# EAGLE library part BATRON12864 (library jason-test)
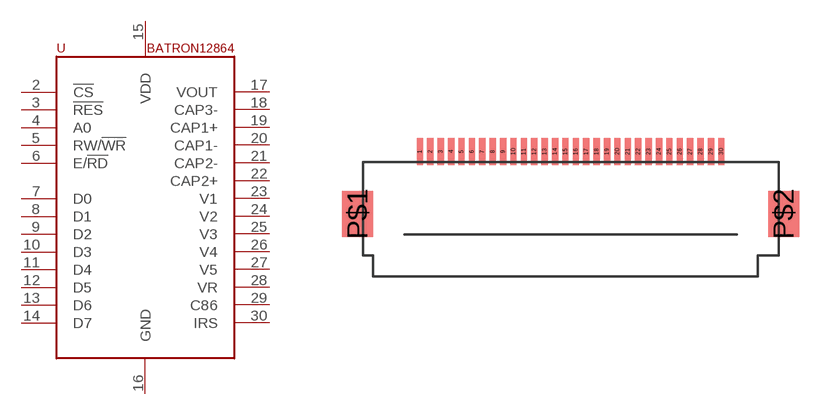
[diagram p41: symbol with the pads of IL-FHR-F30S-HF; footprint IL-FHR-F30S-HF]

Designator prefix -

## BATRON12864  [IL-FHR-F30S-HF]
2  !CS  in
3  !RES  in
4  A0  in
5  RW/!WR  in
6  E/!RD  in
7  D0
8  D1
9  D2
10  D3
11  D4
12  D5
13  D6
14  D7
15  VDD  pwr
16  GND  pwr
17  VOUT
18  CAP3-
19  CAP1+
20  CAP1-
21  CAP2-
22  CAP2+
23  V1
24  V2
25  V3
26  V4
27  V5
28  VR
29  C86  in
30  IRS  in

## Footprint IL-FHR-F30S-HF (pad centres in mm)
smd 0.3 x 1.3: 1 -7.25,0.5; 2 -6.75,0.5; 3 -6.25,0.5; 4 -5.75,0.5; 5 -5.25,0.5; 6 -4.75,0.5; 7 -4.25,0.5; 8 -3.75,0.5; 9 -3.25,0.5; 10 -2.75,0.5; 11 -2.25,0.5; 12 -1.75,0.5; 13 -1.25,0.5; 14 -0.75,0.5; 15 -0.25,0.5; 16 0.25,0.5; 17 0.75,0.5; 18 1.25,0.5; 19 1.75,0.5; 20 2.25,0.5; 21 2.75,0.5; 22 3.25,0.5; 23 3.75,0.5; 24 4.25,0.5; 25 4.75,0.5; 26 5.25,0.5; 27 5.75,0.5; 28 6.25,0.5; 29 6.75,0.5; 30 7.25,0.5
smd 1.5 x 2.2: P$1 -10.25,-2.5; P$2 10.25,-2.5